# Altium footprint library T25_Components.PcbLib: 10 footprints
Each footprint in its own frame and in the unit in brackets; x right, y up, seen from the top. Pads: shape width x height; smd on the part's side, far side on the other; paste and mask are expansions set on the pad; w line width, h text height; cw(c..) or ccw(c..) is an arc to the next point about the centre after c.
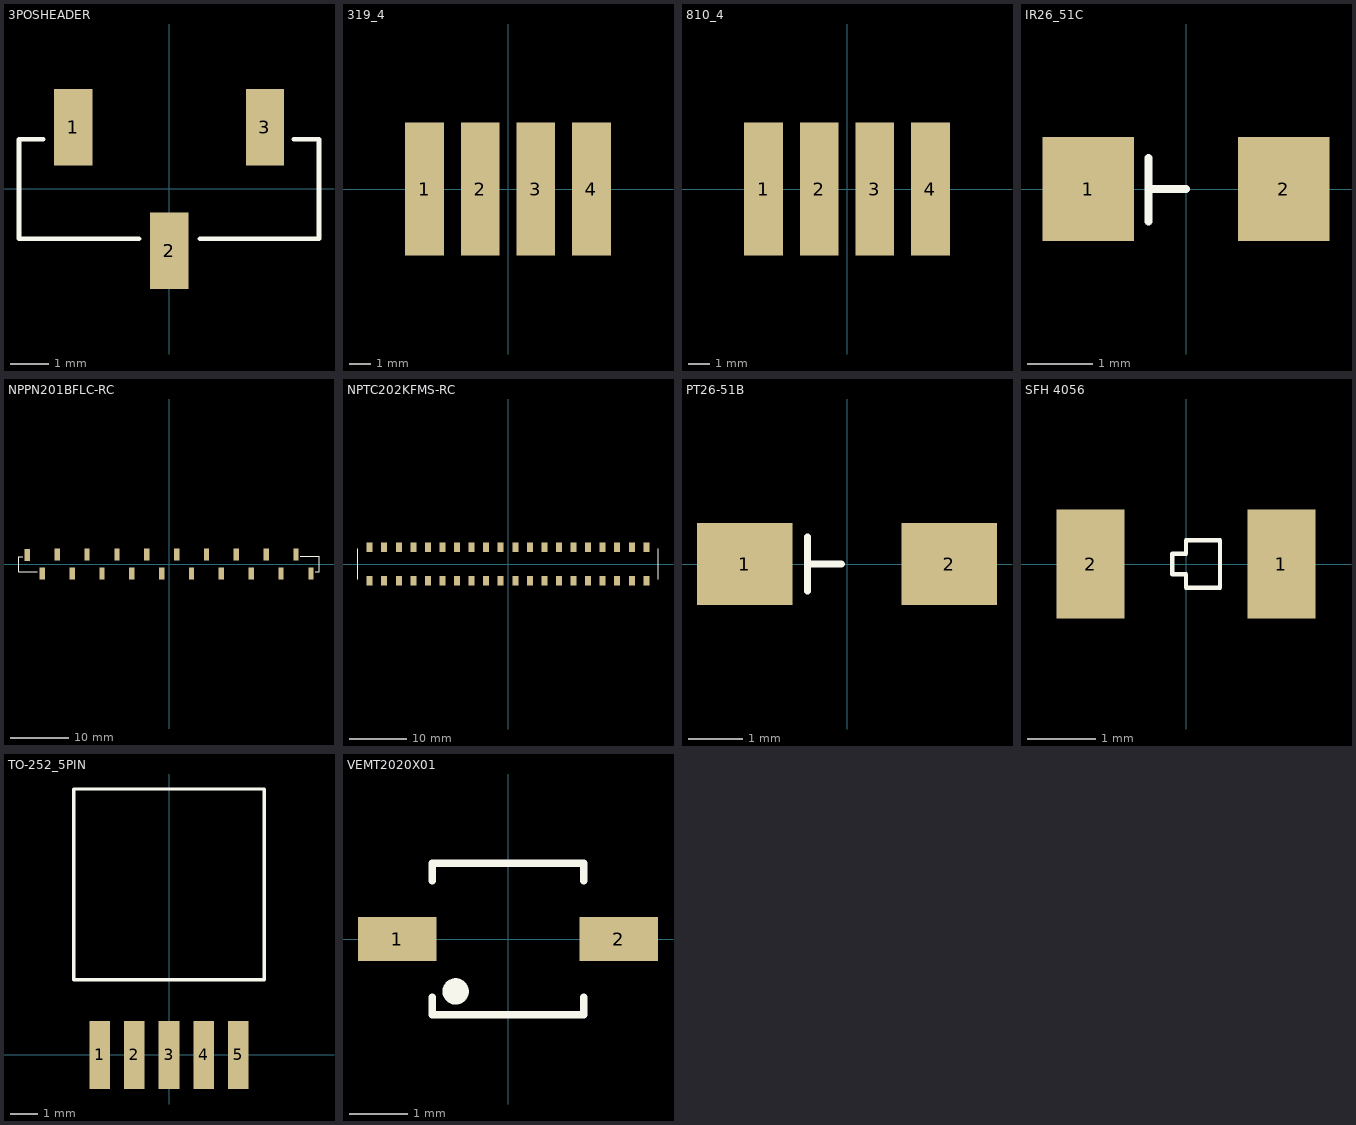
[diagram p0: the footprints below, top view; thin cyan lines are the x and y axes]

## 3POSHEADER [mm] "3 position header smt"
height 7.1
pads (3):
  rect 1x2 smd: 1(-2.515,1.61) 2(-0.005,-1.61) 3(2.495,1.61)
Top Overlay:
  lines w0.127: -3.3,1.3 -3.935,1.3 -3.935,-1.3 -0.8,-1.3 ; 0.8,-1.3 3.91,-1.3 3.91,1.3 3.25,1.3

## 319_4 [mil]
height 94.88
pads (4):
  rect 70x240 smd: 1(-150,0) 2(-50,0) 3(50,0) 4(150,0)

## 810_4 [mil]
height 94.88
pads (4):
  rect 70x240 smd: 1(-150,0) 2(-50,0) 3(50,0) 4(150,0)

## IR26_51C [mm] "IR26_51C SMD"
height 2.6
pads (2):
  rect 1.4x1.6 smd: 1(-1.5,0) 2(1.5,0)
Top Overlay:
  lines w0.127: -0.575,-0.5 -0.575,0.475 ; -0.563,0 0,0

## NPPN201BFLC-RC [mm] "SMD 1x20 FEMALE SOCKET HEADER"
height 4.6
pads (20):
  rect 0.905x2.05 smd: 1(-24.13,1.55) 2(-21.59,-1.625) 3(-19.05,1.625) 4(-16.51,-1.625) 5(-13.97,1.625) 6(-11.43,-1.625) 7(-8.89,1.625) 8(-6.35,-1.625) 9(-3.81,1.625) 10(-1.27,-1.625) 11(1.27,1.625) 12(3.81,-1.625) 13(6.35,1.625) 14(8.89,-1.625) 15(11.43,1.625) 16(13.97,-1.625) 17(16.51,1.625) 18(19.05,-1.625) 19(21.59,1.625) 20(24.13,-1.625)
Top Overlay:
  lines w0.127: -24.892,1.27 -25.502,1.27 -25.552,1.219 -25.552,-1.295 -22.479,-1.295 ; 22.352,1.295 24.13,1.295 25.502,1.295 25.502,-1.295 24.892,-1.295

## NPTC202KFMS-RC [mil] "40 Position Header Connector 0.100\" (2.54mm) Surface Mount Tin"
height 279.53
pads (40):
  rect 41x63 smd: 1(-950,115) 2(-850,115) 3(-750,115) 4(-650,115) 5(-550,115) 6(-450,115) 7(-350,115) 8(-250,115) 9(-150,115) 10(-50,115) 11(50,115) 12(150,115) 13(250,115) 14(350,115) 15(450,115) 16(550,115) 17(650,115) 18(750,115) 19(850,115) 20(950,115) 21(-950,-115) 22(-850,-115) 23(-750,-115) 24(-650,-115) 25(-550,-115) 26(-450,-115) 27(-350,-115) 28(-250,-115) 29(-150,-115) 30(-50,-115) 31(50,-115) 32(150,-115) 33(250,-115) 34(350,-115) 35(450,-115) 36(550,-115) 37(650,-115) 38(750,-115) 39(850,-115) 40(950,-115)
Top Overlay:
  lines w2.48: -1030,-105 -1030,105 ; 1030,-105 1030,105

## PT26-51B [mm] "PT26-51B/TR8 SMD"
height 2.51
pads (2):
  rect 1.75x1.5 smd: 1(-1.875,0) 2(1.875,0)
Top Overlay:
  lines w0.127: -0.725,-0.5 -0.725,0.5 ; -0.725,0 -0.1,0

## SFH 4056 [mm] "Infrared (IR) Emitter 860nm 1.6V 70mA 35mW/sr @ 70mA 44° 2-SMD, No Lead"
height 1
pads (2):
  rect 1x1.6 smd: 1(1.4,0) 2(-1.4,0)
Top Overlay:
  lines w0.063: -0.2,-0.15 0,-0.15 0,-0.35 0.5,-0.35 0.5,0.35 0,0.35 0,0.15 -0.2,0.15 -0.2,-0.15

## TO-252_5PIN [mm]
height 2.388
pads (5):
  rect 0.76x2.5 smd: 1(-2.54,0) 2(-1.27,0) 3(0,0) 4(1.27,0) 5(2.54,0)
Top Overlay:
  lines w0.127: -3.5,2.75 -3.5,9.75 3.5,9.75 3.5,2.75 -3.5,2.75

## VEMT2020X01 [mm] "Phototransistor 860nm Top View 2-SMD, Gull Wing"
height 2.77
pads (2):
  rect 1.35x0.75 smd: 1(-1.9,0) 2(1.9,0)
Top Overlay:
  circle w0.254: c-0.9,-0.9 r0.1
  lines w0.127: -1.3,-1 -1.3,-1.3 1.3,-1.3 1.3,-1 ; -1.3,1 -1.3,1.3 1.3,1.3 1.3,1